# Altium footprint library Res_Vishay_CRCW08050000Z0EA_eec_IPC_B.PcbLib: 1 footprints
Each footprint in its own frame and in the unit in brackets; x right, y up, seen from the top. Pads: shape width x height; smd on the part's side, far side on the other; paste and mask are expansions set on the pad; w line width, h text height; cw(c..) or ccw(c..) is an arc to the next point about the centre after c.
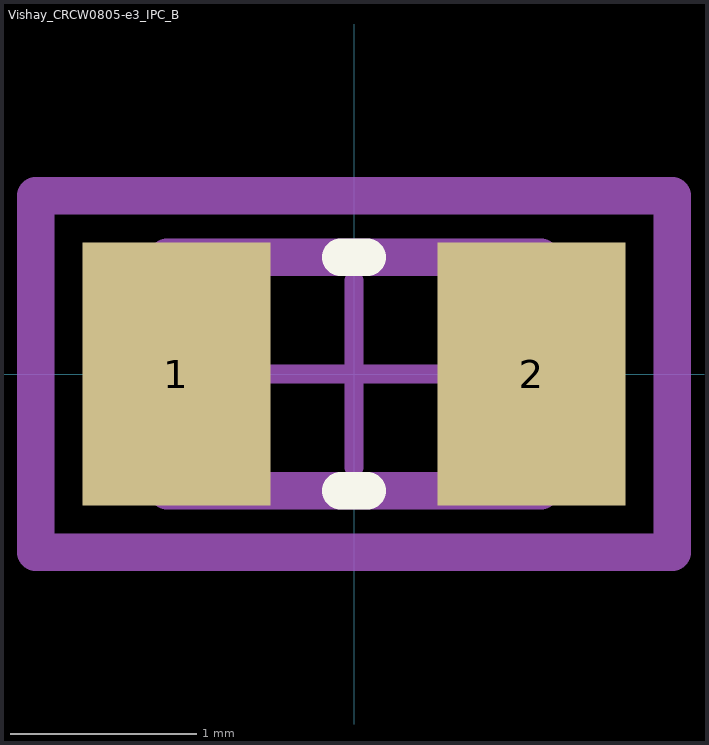
[diagram p0: the footprint, top view; thin cyan lines are the x and y axes]

## Vishay_CRCW0805-e3_IPC_B [mm]
pads (2):
  rect 1.007x1.408 smd paste+0 mask+0: 1(-0.951,0) 2(0.951,0)
Top Overlay:
  lines w0.2: -0.073,-0.625 0.073,-0.625 ; -0.073,0.625 0.073,0.625
Mechanical 10:
  lines w0.2: -1.704,-0.954 -1.704,0.954 1.704,0.954 1.704,-0.954 -1.704,-0.954
  text ".Designator" at 0,0.187 h1
Mechanical 12:
  lines w0.2: -1,-0.625 -1,0.625 1,0.625 1,-0.625 -1,-0.625
Mechanical 15:
  lines w0.1: -0.5,0 0.5,0 ; 0,-0.5 0,0.5
  lines w0.2: -1.704,-0.954 -1.704,0.954 1.704,0.954 1.704,-0.954 -1.704,-0.954
3D body "Res_Vishay_CRCW08050000Z0EA_eec.STEP": height 0.25, standoff 0, extent -1.704,-0.954 1.704,0.954